# Altium schematic symbol library Passives.SchLib: 279 symbols (part 10 of 10)
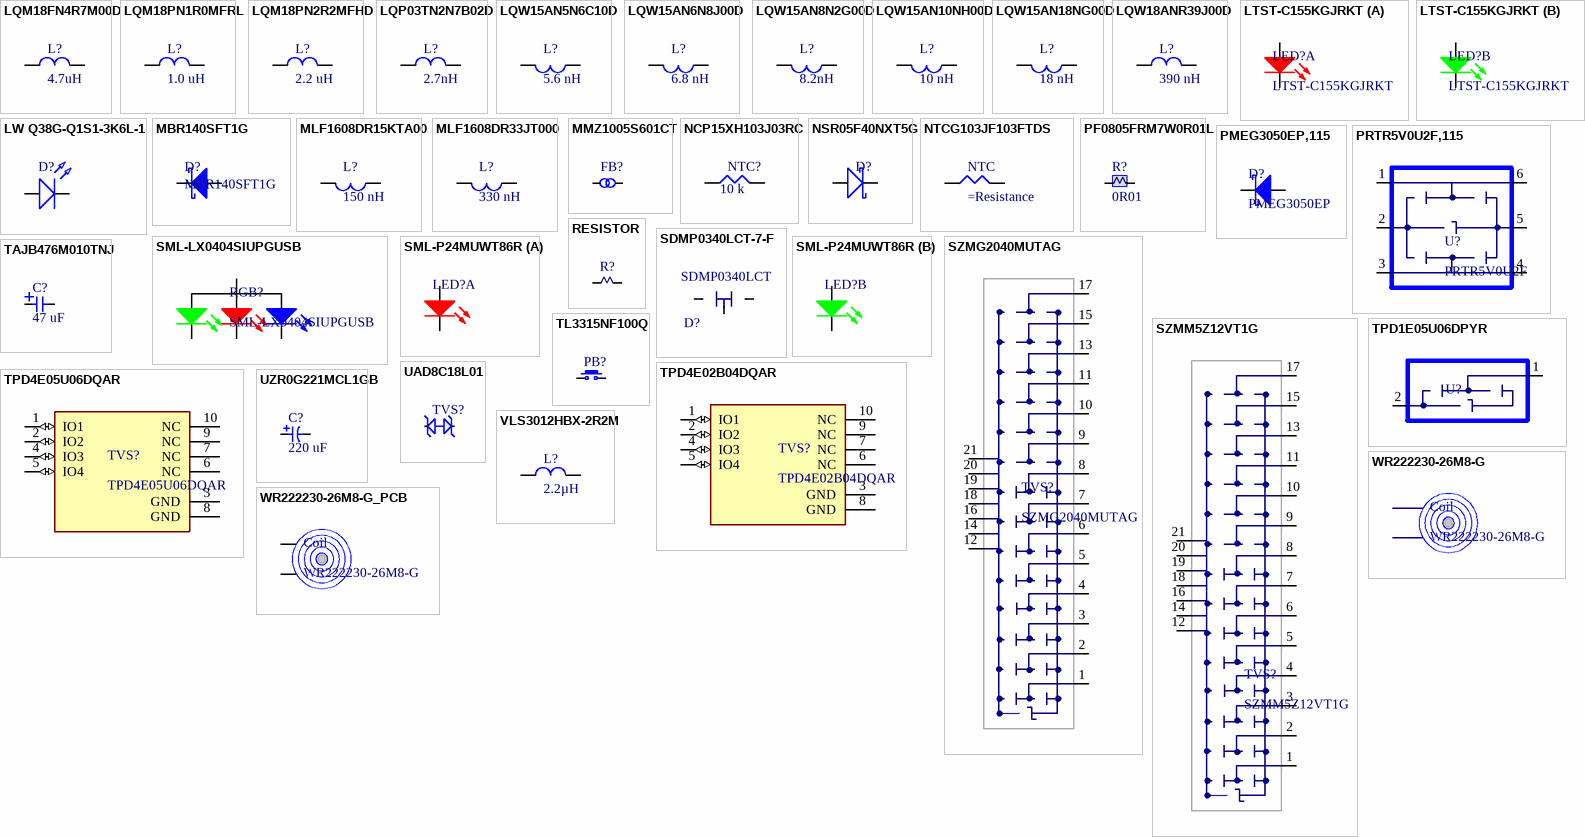
[diagram p16: symbols LQM18FN4R7M00D to WR222230-26M8-G_PCB]

## VLS3012HBX-2R2M
designator L?, comment 2.2µH
Inductor Power Shielded Wirewound 2.2uH 20% 1MHz Metal 2.84A 0.106Ohm DCR 1212 T/R; Manufacturer: TDK; Manufacturer Part Number: VLS3012HBX-2R2M; Manufacturer Lifecycle Status: PRODUCTION (NOT RECOMMENDED FOR NEW DESIGN); Current Rating: 3.76A; DC Resistance (DCR): 106mΩ; Number of Circuits: 1; RMS Current (Irms): 3.35A; Supplier: Farnell; Supplier Part Number: VLS3012HBX-2R2M; RoHS: Compliant; Category: Fixed Inductors; Stock: 1989; Pricing: 100=0.341, 250=0.28, 500=0.251, 1000=0.222, 2000=0.218 (EUR); Case/Package: 1212; Composition: Wirewound; Core Material: Metal; Height: 1.2mm; Value: 2.2µH; Inductance Tolerance: 20%; Length: 3mm; Lifecycle Status: NRND; Max Current Rating: 2.84A; Max Length: 3.1mm; Max Operating Temperature: 105°C; Max Width: 3.1mm; Min Length: 2.9mm; Min Operating Temperature: -40°C; Min Width: 2.9mm; Number of Terminals: 2; REACH SVHC: Yes; Saturation Current: 3.76A; Schedule B: 8504500000, 8504500000|8504500000|8504500000|8504500000|8504500000; ESR: 106mΩ; Shielding: Shielded; Test Frequency: 1MHz; Tolerance: 20%; Width: 3mm; ComponentLink1URL: https://datasheet.octopart.com:443/VLS3012HBX-2R2M-TDK-datasheet-137795867.pdf?src-supplier=TME; ComponentLink1Description: https://datasheet.octopart.com:443/VLS3012HBX-2R2M-TDK-datasheet-137795867.pdf?src-supplier=TME; ComponentLink2URL: https://datasheet.octopart.com:443/VLS3012HBX-2R2M-TDK-datasheet-151651385.pdf?src-supplier=ODG+(Origin+Data+Global); ComponentLink2Description: https://datasheet.octopart.com:443/VLS3012HBX-2R2M-TDK-datasheet-151651385.pdf?src-supplier=ODG+(Origin+Data+Global)
footprint VLS3012
pins: 1, 2

## WR222230-26M8-G
designator Coil
Ind Wireless Charging Receiving Coil 27uH 100KHz Radial; Manufacturer: TDK; Logic Function: Receiver; DC Resistance (DCR): 1.1R; Supplier: Digikey; Supplier Part Number: 445-173093-ND; Manufacturer Part Number: WR222230-26M8-G; RoHS: Yes; Category: Inductors; Stock: 4305; Pricing: 1=3.09, 10=2.582, 25=2.3576, 40=2.02075, 135=1.85244, 270=1.79633, 540=1.74019, 945=1.62792, 2430=1.57178 (USD); Value: 27uH; Series: WR; Packaging: Tray; RoHS Compliant: Yes; ComponentLink1URL: http://www.farnell.com/datasheets/2367225.pdf?src-supplier=Farnell; ComponentLink1Description: http://www.farnell.com/datasheets/2367225.pdf?src-supplier=Farnell; ComponentLink2URL: http://www.farnell.com/datasheets/2367225.pdf?src-supplier=Newark; ComponentLink2Description: http://www.farnell.com/datasheets/2367225.pdf?src-supplier=Newark; ComponentLink3URL: https://product.tdk.com/info/en/catalog/datasheets/wlc_rx_wr222230-26m8-g_en.pdf?src-supplier=Digikey; ComponentLink3Description: https://product.tdk.com/info/en/catalog/datasheets/wlc_rx_wr222230-26m8-g_en.pdf?src-supplier=Digikey; Supplier 1: Mouser; Supplier Part Number 1: 810-WR222230-26M8-G; Supplier 2: Digikey; Supplier Part Number 2: 445-173093-ND

## WR222230-26M8-G_PCB
designator Coil, comment WR222230-26M8-G
Ind Wireless Charging Receiving Coil 27uH 100KHz Radial; Manufacturer: TDK; Logic Function: Receiver; DC Resistance (DCR): 1.1R; Supplier: Digikey; Supplier Part Number: 445-173093-ND; Manufacturer Part Number: WR222230-26M8-G; RoHS: Yes; Category: Inductors; Stock: 4305; Pricing: 1=3.09, 10=2.582, 25=2.3576, 40=2.02075, 135=1.85244, 270=1.79633, 540=1.74019, 945=1.62792, 2430=1.57178 (USD); Value: 27uH; Series: WR; Packaging: Tray; RoHS Compliant: Yes; ComponentLink1URL: http://www.farnell.com/datasheets/2367225.pdf?src-supplier=Farnell; ComponentLink1Description: http://www.farnell.com/datasheets/2367225.pdf?src-supplier=Farnell; ComponentLink2URL: http://www.farnell.com/datasheets/2367225.pdf?src-supplier=Newark; ComponentLink2Description: http://www.farnell.com/datasheets/2367225.pdf?src-supplier=Newark; ComponentLink3URL: https://product.tdk.com/info/en/catalog/datasheets/wlc_rx_wr222230-26m8-g_en.pdf?src-supplier=Digikey; ComponentLink3Description: https://product.tdk.com/info/en/catalog/datasheets/wlc_rx_wr222230-26m8-g_en.pdf?src-supplier=Digikey; Supplier 1: Rs; Supplier Part Number 1: 1858385
footprint WR222230-26M8-G
pins: 1, 2

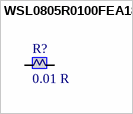
[diagram p7: symbol WSL0805R0100FEA18]

## WSL0805R0100FEA18
designator R?, comment 0.01 R
RES SMD 0.01 OHM 1% 1/4W 0805; Manufacturer: Vishay Dale; Manufacturer Part Number: WSL0805R0100FEA18; Resistance (Ohms): 0.01; Power (Watts): 0.25W, 1/4W; Temperature Coefficient: ±75ppm/°C; Supplier 1: Digi-Key; Supplier Part Number 1: WSLB-.01CT-ND; RoHS: RoHS Compliant; Category: Resistors; Stock 1: 26180; Pricing 1: 1=0.76, 10=0.67, 25=0.616, 50=0.562, 100=0.4863, 250=0.41064, 500=0.3458, 1000=0.28745, 2500=0.28097 (GBP); Packaging: Cut Tape (CT); Part Status: Active; Tolerance: ±1%; Composition: Metal Element; Features: Automotive AEC-Q200, Current Sense, Moisture Resistant, Pulse Withstanding; Operating Temperature: -65°C ~ 170°C; Package / Case: 0805 (2012 Metric); Supplier Device Package: 0805; Size / Dimension: 0.080" L x 0.050" W (2.03mm x 1.27mm); Height: 0.018" (0.46mm); Number of Terminations: 2; Failure Rate: -; ComponentLink1URL: http://www.vishay.com/docs/31057/wslhigh.pdf; ComponentLink1Description: http://www.vishay.com/docs/31057/wslhigh.pdf; Value: 0.01 R
footprint RESC2013X06N (Chip Resistor, 2-Leads, Body 2.03x1.27mm, IPC Medium Density)
signal-integrity model Model Name (Model Description)
pins: 1, 2